# Altium integrated library Cypress Clocks & Buffers Clock Distribution.IntLib: 321 symbols (part 1 of 25)
Pins are listed as number, name and electrical type; pins without a type are passive.

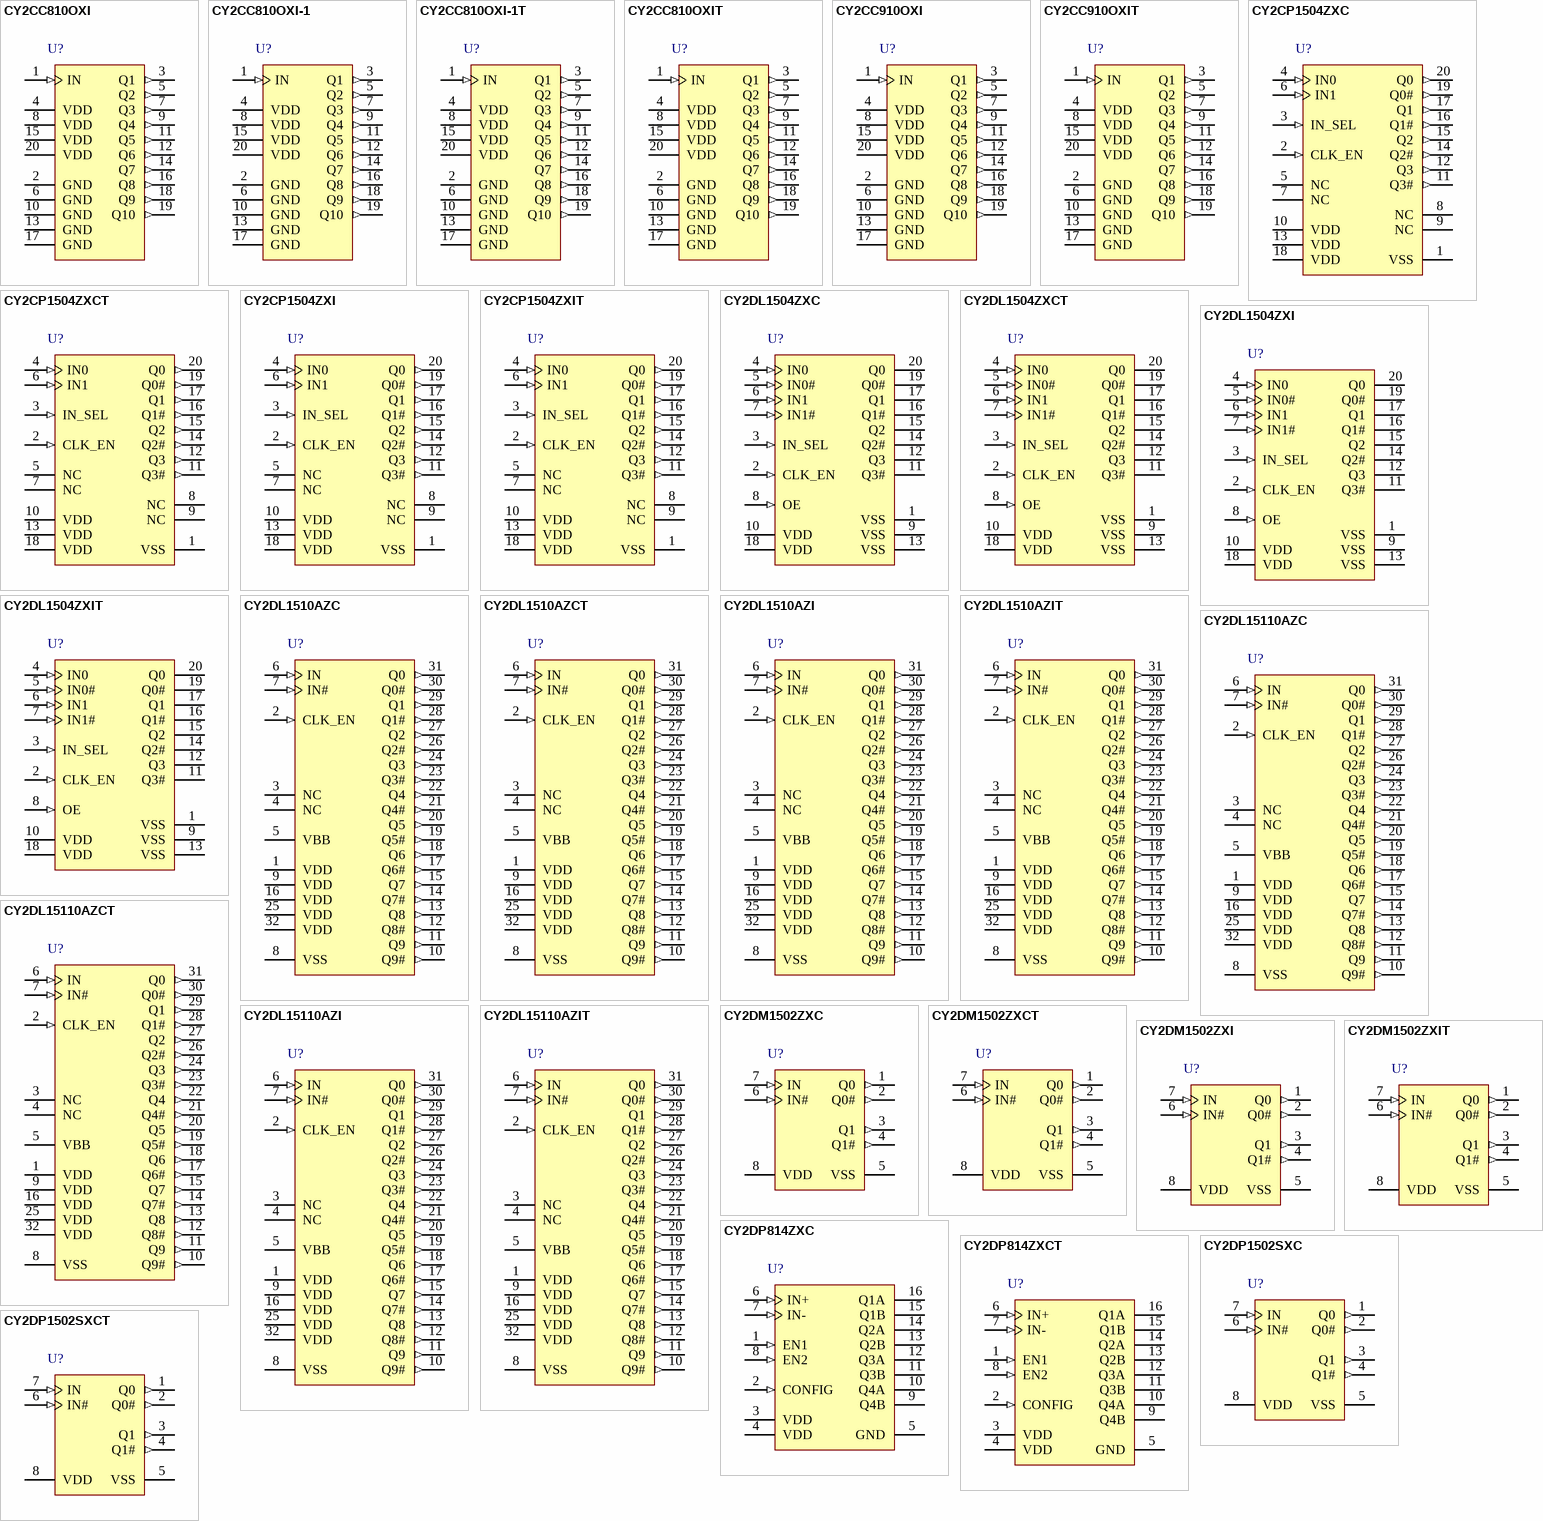
[diagram p0: symbols CY2CC810OXI to CY2DP1502SXCT]

## CY2CC810OXI
designator U?
1:10 Clock Fanout Buffer, 2.5 / 3.3 V, 10 Outputs, 650 MHz Maximum, -40 to 85 degC, 20-Pin SSOP (OX20), Tube; Manufacturer: Cypress; PartNumber: CY2CC810OXI; Input Frequency Max. (MHz): 650; Max. Operating Voltage (V): 3.3; Min. Operating Voltage (V): 2.5; No. of Outputs: 10; DatasheetVersion: Rev. *E; PackageVersion: Rev. *E; PackageReference: OX20; PackageDescription: 20-Pin Shrink Small Outline Package, Body 7.2 x 5.3 mm, Pitch 0.65 mm; Supplier 1: Digi-Key; Supplier Part Number 1: 428-2900-5-ND; Supplier 2: Mouser; Supplier Part Number 2: 727-CY2CC810OXI; Max. Operating Temp. (degreesC): 85; Min. Operating Temp. (degreesC): -40; Output Frequency Max. (MHz): 650; Packing: Tube; RoHS: Pb-Free; Mounting Technology: Surface Mount; ComponentLink1Description: Manufacturer URL; ComponentLink1URL: http://www.cypress.com/; ComponentLink2Description: Datasheet; ComponentLink2URL: http://www.cypress.com/?docID=31678; ComponentLink3Description: Package Specification; ComponentLink3URL: http://www.cypress.com/?docID=31678
footprint CYP-OX20_N (SOP, 20-Leads, Body 7.4x5.6mm, Pitch 0.65mm, IPC Medium Density)
footprint CYP-OX20_L (SOP, 20-Leads, Body 7.4x5.6mm, Pitch 0.65mm, IPC High Density)
footprint CYP-OX20_M (SOP, 20-Leads, Body 7.4x5.6mm, Pitch 0.65mm, IPC Low Density)
pins: 1 IN (in) "LVCMOS Input", 2 GND (power) "Ground", 3 Q1 (out) "AVCMOS Output", 4 VDD (power) "Power Supply", 5 Q2 (out) "AVCMOS Output", 6 GND (power) "Ground", 7 Q3 (out) "AVCMOS Output", 8 VDD (power) "Power Supply", 9 Q4 (out) "AVCMOS Output", 10 GND (power) "Ground", 11 Q5 (out) "AVCMOS Output", 12 Q6 (out) "AVCMOS Output", 13 GND (power) "Ground", 14 Q7 (out) "AVCMOS Output", 15 VDD (power) "Power Supply", 16 Q8 (out) "AVCMOS Output", 17 GND (power) "Ground", 18 Q9 (out) "AVCMOS Output", 19 Q10 (out) "AVCMOS Output", 20 VDD (power) "Power Supply"

## CY2CC810OXI-1
designator U?
1:10 Clock Fanout Buffer, 2.5 / 3.3 V, 10 Outputs, 650 MHz Maximum, -40 to 85 degC, 20-Pin SSOP (OX20), Tube; Manufacturer: Cypress; PartNumber: CY2CC810OXI-1; Input Frequency Max. (MHz): 650; Max. Operating Voltage (V): 3.3; Min. Operating Voltage (V): 2.5; No. of Outputs: 10; DatasheetVersion: Rev. *E; PackageVersion: Rev. *E; PackageReference: OX20; PackageDescription: 20-Pin Shrink Small Outline Package, Body 7.2 x 5.3 mm, Pitch 0.65 mm; Supplier 1: Mouser; Supplier Part Number 1: N/A; Max. Operating Temp. (degreesC): 85; Min. Operating Temp. (degreesC): -40; Output Frequency Max. (MHz): 650; Packing: Tube; RoHS: Pb-Free; Mounting Technology: Surface Mount; ComponentLink1Description: Manufacturer URL; ComponentLink1URL: http://www.cypress.com/; ComponentLink2Description: Datasheet; ComponentLink2URL: http://www.cypress.com/?docID=31678; ComponentLink3Description: Package Specification; ComponentLink3URL: http://www.cypress.com/?docID=31678
footprint CYP-OX20_N (SOP, 20-Leads, Body 7.4x5.6mm, Pitch 0.65mm, IPC Medium Density)
footprint CYP-OX20_L (SOP, 20-Leads, Body 7.4x5.6mm, Pitch 0.65mm, IPC High Density)
footprint CYP-OX20_M (SOP, 20-Leads, Body 7.4x5.6mm, Pitch 0.65mm, IPC Low Density)
pins: 1 IN (in) "LVCMOS Input", 2 GND (power) "Ground", 3 Q1 (out) "AVCMOS Output", 4 VDD (power) "Power Supply", 5 Q2 (out) "AVCMOS Output", 6 GND (power) "Ground", 7 Q3 (out) "AVCMOS Output", 8 VDD (power) "Power Supply", 9 Q4 (out) "AVCMOS Output", 10 GND (power) "Ground", 11 Q5 (out) "AVCMOS Output", 12 Q6 (out) "AVCMOS Output", 13 GND (power) "Ground", 14 Q7 (out) "AVCMOS Output", 15 VDD (power) "Power Supply", 16 Q8 (out) "AVCMOS Output", 17 GND (power) "Ground", 18 Q9 (out) "AVCMOS Output", 19 Q10 (out) "AVCMOS Output", 20 VDD (power) "Power Supply"

## CY2CC810OXI-1T
designator U?
1:10 Clock Fanout Buffer, 2.5 / 3.3 V, 10 Outputs, 650 MHz Maximum, -40 to 85 degC, 20-Pin SSOP (OX20), Tape and Reel; Manufacturer: Cypress; PartNumber: CY2CC810OXI-1T; Input Frequency Max. (MHz): 650; Max. Operating Voltage (V): 3.3; Min. Operating Voltage (V): 2.5; No. of Outputs: 10; DatasheetVersion: Rev. *E; PackageVersion: Rev. *E; PackageReference: OX20; PackageDescription: 20-Pin Shrink Small Outline Package, Body 7.2 x 5.3 mm, Pitch 0.65 mm; Supplier 1: Mouser; Supplier Part Number 1: 727-CY2CC810OXI1T; Max. Operating Temp. (degreesC): 85; Min. Operating Temp. (degreesC): -40; Output Frequency Max. (MHz): 650; Packing: Tape and Reel; RoHS: Pb-Free; Mounting Technology: Surface Mount; ComponentLink1Description: Manufacturer URL; ComponentLink1URL: http://www.cypress.com/; ComponentLink2Description: Datasheet; ComponentLink2URL: http://www.cypress.com/?docID=31678; ComponentLink3Description: Package Specification; ComponentLink3URL: http://www.cypress.com/?docID=31678
footprint CYP-OX20_N (SOP, 20-Leads, Body 7.4x5.6mm, Pitch 0.65mm, IPC Medium Density)
footprint CYP-OX20_L (SOP, 20-Leads, Body 7.4x5.6mm, Pitch 0.65mm, IPC High Density)
footprint CYP-OX20_M (SOP, 20-Leads, Body 7.4x5.6mm, Pitch 0.65mm, IPC Low Density)
pins: 1 IN (in) "LVCMOS Input", 2 GND (power) "Ground", 3 Q1 (out) "AVCMOS Output", 4 VDD (power) "Power Supply", 5 Q2 (out) "AVCMOS Output", 6 GND (power) "Ground", 7 Q3 (out) "AVCMOS Output", 8 VDD (power) "Power Supply", 9 Q4 (out) "AVCMOS Output", 10 GND (power) "Ground", 11 Q5 (out) "AVCMOS Output", 12 Q6 (out) "AVCMOS Output", 13 GND (power) "Ground", 14 Q7 (out) "AVCMOS Output", 15 VDD (power) "Power Supply", 16 Q8 (out) "AVCMOS Output", 17 GND (power) "Ground", 18 Q9 (out) "AVCMOS Output", 19 Q10 (out) "AVCMOS Output", 20 VDD (power) "Power Supply"

## CY2CC810OXIT
designator U?
1:10 Clock Fanout Buffer, 2.5 / 3.3 V, 10 Outputs, 650 MHz Maximum, -40 to 85 degC, 20-Pin SSOP (OX20), Tape and Reel; Manufacturer: Cypress; PartNumber: CY2CC810OXIT; Input Frequency Max. (MHz): 650; Max. Operating Voltage (V): 3.3; Min. Operating Voltage (V): 2.5; No. of Outputs: 10; DatasheetVersion: Rev. *E; PackageVersion: Rev. *E; PackageReference: OX20; PackageDescription: 20-Pin Shrink Small Outline Package, Body 7.2 x 5.3 mm, Pitch 0.65 mm; Supplier 1: Digi-Key; Supplier Part Number 1: CY2CC810OXIT-ND; Supplier 2: Newark; Supplier Part Number 2: 19M5823; Supplier 3: Mouser; Supplier Part Number 3: 727-CY2CC810OXIT; Max. Operating Temp. (degreesC): 85; Min. Operating Temp. (degreesC): -40; Output Frequency Max. (MHz): 650; Packing: Tape and Reel; RoHS: Pb-Free; Mounting Technology: Surface Mount; ComponentLink1Description: Manufacturer URL; ComponentLink1URL: http://www.cypress.com/; ComponentLink2Description: Datasheet; ComponentLink2URL: http://www.cypress.com/?docID=31678; ComponentLink3Description: Package Specification; ComponentLink3URL: http://www.cypress.com/?docID=31678
footprint CYP-OX20_N (SOP, 20-Leads, Body 7.4x5.6mm, Pitch 0.65mm, IPC Medium Density)
footprint CYP-OX20_L (SOP, 20-Leads, Body 7.4x5.6mm, Pitch 0.65mm, IPC High Density)
footprint CYP-OX20_M (SOP, 20-Leads, Body 7.4x5.6mm, Pitch 0.65mm, IPC Low Density)
pins: 1 IN (in) "LVCMOS Input", 2 GND (power) "Ground", 3 Q1 (out) "AVCMOS Output", 4 VDD (power) "Power Supply", 5 Q2 (out) "AVCMOS Output", 6 GND (power) "Ground", 7 Q3 (out) "AVCMOS Output", 8 VDD (power) "Power Supply", 9 Q4 (out) "AVCMOS Output", 10 GND (power) "Ground", 11 Q5 (out) "AVCMOS Output", 12 Q6 (out) "AVCMOS Output", 13 GND (power) "Ground", 14 Q7 (out) "AVCMOS Output", 15 VDD (power) "Power Supply", 16 Q8 (out) "AVCMOS Output", 17 GND (power) "Ground", 18 Q9 (out) "AVCMOS Output", 19 Q10 (out) "AVCMOS Output", 20 VDD (power) "Power Supply"

## CY2CC910OXI
designator U?
1:10 Clock Fanout Buffer, 1.8 / 2.5 / 3.3 V, 10 Outputs, 650 MHz Maximum, -40 to 85 degC, 20-Pin SSOP (OX20), Tube; Manufacturer: Cypress; PartNumber: CY2CC910OXI; Input Frequency Max. (MHz): 650; No. of Outputs: 10; DatasheetVersion: Rev. *F; PackageVersion: Rev. *E; PackageReference: OX20; PackageDescription: 20-Pin Shrink Small Outline Package, Body 7.2 x 5.3 mm, Pitch 0.65 mm; Supplier 1: Digi-Key; Supplier Part Number 1: CY2CC910OXI-ND; Supplier 2: Newark; Supplier Part Number 2: 19M5828; Supplier 3: Newark; Supplier Part Number 3: 51X2305; Supplier 4: Mouser; Supplier Part Number 4: 727-CY2CC910OXI; Max. Operating Temp. (degreesC): 85; Min. Operating Temp. (degreesC): -40; Output Frequency Max. (MHz): 650; Packing: Tube; RoHS: Pb-Free; Mounting Technology: Surface Mount; ComponentLink1Description: Manufacturer URL; ComponentLink1URL: http://www.cypress.com/; ComponentLink2Description: Datasheet; ComponentLink2URL: http://www.cypress.com/?docID=31899; ComponentLink3Description: Package Specification; ComponentLink3URL: http://www.cypress.com/?docID=31678
footprint CYP-OX20_N (SOP, 20-Leads, Body 7.4x5.6mm, Pitch 0.65mm, IPC Medium Density)
footprint CYP-OX20_L (SOP, 20-Leads, Body 7.4x5.6mm, Pitch 0.65mm, IPC High Density)
footprint CYP-OX20_M (SOP, 20-Leads, Body 7.4x5.6mm, Pitch 0.65mm, IPC Low Density)
pins: 1 IN (in) "Input", 2 GND (power) "Ground", 3 Q1 (out) "Output", 4 VDD (power) "Power Supply", 5 Q2 (out) "Output", 6 GND (power) "Ground", 7 Q3 (out) "Output", 8 VDD (power) "Power Supply", 9 Q4 (out) "Output", 10 GND (power) "Ground", 11 Q5 (out) "Output", 12 Q6 (out) "Output", 13 GND (power) "Ground", 14 Q7 (out) "Output", 15 VDD (power) "Power Supply", 16 Q8 (out) "Output", 17 GND (power) "Ground", 18 Q9 (out) "Output", 19 Q10 (out) "Output", 20 VDD (power) "Power Supply"

## CY2CC910OXIT
designator U?
1:10 Clock Fanout Buffer, 1.8 / 2.5 / 3.3 V, 10 Outputs, 650 MHz Maximum, -40 to 85 degC, 20-Pin SSOP (OX20), Tape and Reel; Manufacturer: Cypress; PartNumber: CY2CC910OXIT; Input Frequency Max. (MHz): 650; No. of Outputs: 10; DatasheetVersion: Rev. *F; PackageVersion: Rev. *E; PackageReference: OX20; PackageDescription: 20-Pin Shrink Small Outline Package, Body 7.2 x 5.3 mm, Pitch 0.65 mm; Supplier 1: Digi-Key; Supplier Part Number 1: CY2CC910OXIT-ND; Supplier 2: Mouser; Supplier Part Number 2: 727-CY2CC910OXIT; Max. Operating Temp. (degreesC): 85; Min. Operating Temp. (degreesC): -40; Output Frequency Max. (MHz): 650; Packing: Tape and Reel; RoHS: Pb-Free; Mounting Technology: Surface Mount; ComponentLink1Description: Manufacturer URL; ComponentLink1URL: http://www.cypress.com/; ComponentLink2Description: Datasheet; ComponentLink2URL: http://www.cypress.com/?docID=31899; ComponentLink3Description: Package Specification; ComponentLink3URL: http://www.cypress.com/?docID=31678
footprint CYP-OX20_N (SOP, 20-Leads, Body 7.4x5.6mm, Pitch 0.65mm, IPC Medium Density)
footprint CYP-OX20_L (SOP, 20-Leads, Body 7.4x5.6mm, Pitch 0.65mm, IPC High Density)
footprint CYP-OX20_M (SOP, 20-Leads, Body 7.4x5.6mm, Pitch 0.65mm, IPC Low Density)
pins: 1 IN (in) "Input", 2 GND (power) "Ground", 3 Q1 (out) "Output", 4 VDD (power) "Power Supply", 5 Q2 (out) "Output", 6 GND (power) "Ground", 7 Q3 (out) "Output", 8 VDD (power) "Power Supply", 9 Q4 (out) "Output", 10 GND (power) "Ground", 11 Q5 (out) "Output", 12 Q6 (out) "Output", 13 GND (power) "Ground", 14 Q7 (out) "Output", 15 VDD (power) "Power Supply", 16 Q8 (out) "Output", 17 GND (power) "Ground", 18 Q9 (out) "Output", 19 Q10 (out) "Output", 20 VDD (power) "Power Supply"

## CY2CP1504ZXC
designator U?
1:4 LVCMOS to LVPECL Fanout Buffer with Selectable Clock Input, 2.5 / 3.3 V, 4 Outputs, 250 MHz Maximum, 0 to 70 degC, 20-Pin TSSOP (ZX20), Tube; Manufacturer: Cypress; PartNumber: CY2CP1504ZXC; Input Frequency Max. (MHz): 250; Max. Operating Voltage (V): 3.465; Min. Operating Voltage (V): 2.375; No. of Outputs: 4; DatasheetVersion: Rev. *F; PackageVersion: Rev. *D, 09/2011; PackageReference: ZX20; PackageDescription: 20-Pin Thin Shrink Small Outline Package, Body 6.5 x 4.4 mm, Pitch 0.65 mm; Supplier 1: Digi-Key; Supplier Part Number 1: CY2CP1504ZXC-ND; Supplier 2: Newark; Supplier Part Number 2: 45T1729; Supplier 3: Mouser; Supplier Part Number 3: 727-CY2CP1504ZXC; Max. Operating Temp. (degreesC): 70; Min. Operating Temp. (degreesC): 0; Output Frequency Max. (MHz): 250; Packing: Tube; RoHS: Pb-Free; Mounting Technology: Surface Mount; Code_JEDEC: MO-153; ComponentLink1Description: Manufacturer URL; ComponentLink1URL: http://www.cypress.com/; ComponentLink2Description: Datasheet; ComponentLink2URL: http://www.cypress.com/?docID=27539; ComponentLink3Description: Package Specification; ComponentLink3URL: http://www.cypress.com/?docID=39121
footprint CYP-ZX20_N (SOP, 20-Leads, Body 6.6x4.5mm, Pitch 0.65mm, IPC Medium Density)
footprint CYP-ZX20_L (SOP, 20-Leads, Body 6.6x4.5mm, Pitch 0.65mm, IPC High Density)
footprint CYP-ZX20_M (SOP, 20-Leads, Body 6.6x4.5mm, Pitch 0.65mm, IPC Low Density)
pins: 1 VSS (power) "Ground", 2 CLK_EN (in) "Synchronous clock enable. LVCMOS/low-voltage transistor-transistor logic (LVTTL). When CLK_EN = Low, Q(0:3) outputs are held low and Q(0:3)# outputs are held high", 3 IN_SEL (in) "Input clock select pin. LVCMOS/LVTTL; When IN_SEL = Low, input IN0 is active When IN_SEL = High, input IN1 is active", 4 IN0 (in) "LVCMOS input clock. Active when IN_SEL = Low", 5 NC "No connection", 6 IN1 (in) "LVCMOS input clock. Active when IN_SEL = High", 7 NC "No connection", 8 NC "No connection", 9 NC "No connection", 10 VDD (power) "Power supply", 11 Q3# (out) "LVPECL complementary output clocks", 12 Q3 (out) "LVPECL output clocks", 13 VDD (power) "Power supply", 14 Q2# (out) "LVPECL complementary output clocks", 15 Q2 (out) "LVPECL output clocks", 16 Q1# (out) "LVPECL complementary output clocks", 17 Q1 (out) "LVPECL output clocks", 18 VDD (power) "Power supply", 19 Q0# (out) "LVPECL complementary output clocks", 20 Q0 (out) "LVPECL output clocks"

## CY2CP1504ZXCT
designator U?
1:4 LVCMOS to LVPECL Fanout Buffer with Selectable Clock Input, 2.5 / 3.3 V, 4 Outputs, 250 MHz Maximum, 0 to 70 degC, 20-Pin TSSOP (ZX20), Tape and Reel; Manufacturer: Cypress; PartNumber: CY2CP1504ZXCT; Input Frequency Max. (MHz): 250; Max. Operating Voltage (V): 3.465; Min. Operating Voltage (V): 2.375; No. of Outputs: 4; DatasheetVersion: Rev. *F; PackageVersion: Rev. *D, 09/2011; PackageReference: ZX20; PackageDescription: 20-Pin Thin Shrink Small Outline Package, Body 6.5 x 4.4 mm, Pitch 0.65 mm; Supplier 1: Digi-Key; Supplier Part Number 1: CY2CP1504ZXCT-ND; Supplier 2: Mouser; Supplier Part Number 2: 727-CY2CP1504ZXCT; Max. Operating Temp. (degreesC): 70; Min. Operating Temp. (degreesC): 0; Output Frequency Max. (MHz): 250; Packing: Tape and Reel; RoHS: Pb-Free; Mounting Technology: Surface Mount; Code_JEDEC: MO-153; ComponentLink1Description: Manufacturer URL; ComponentLink1URL: http://www.cypress.com/; ComponentLink2Description: Datasheet; ComponentLink2URL: http://www.cypress.com/?docID=27539; ComponentLink3Description: Package Specification; ComponentLink3URL: http://www.cypress.com/?docID=39121
footprint CYP-ZX20_N (SOP, 20-Leads, Body 6.6x4.5mm, Pitch 0.65mm, IPC Medium Density)
footprint CYP-ZX20_L (SOP, 20-Leads, Body 6.6x4.5mm, Pitch 0.65mm, IPC High Density)
footprint CYP-ZX20_M (SOP, 20-Leads, Body 6.6x4.5mm, Pitch 0.65mm, IPC Low Density)
pins: 1 VSS (power) "Ground", 2 CLK_EN (in) "Synchronous clock enable. LVCMOS/low-voltage transistor-transistor logic (LVTTL). When CLK_EN = Low, Q(0:3) outputs are held low and Q(0:3)# outputs are held high", 3 IN_SEL (in) "Input clock select pin. LVCMOS/LVTTL; When IN_SEL = Low, input IN0 is active When IN_SEL = High, input IN1 is active", 4 IN0 (in) "LVCMOS input clock. Active when IN_SEL = Low", 5 NC "No connection", 6 IN1 (in) "LVCMOS input clock. Active when IN_SEL = High", 7 NC "No connection", 8 NC "No connection", 9 NC "No connection", 10 VDD (power) "Power supply", 11 Q3# (out) "LVPECL complementary output clocks", 12 Q3 (out) "LVPECL output clocks", 13 VDD (power) "Power supply", 14 Q2# (out) "LVPECL complementary output clocks", 15 Q2 (out) "LVPECL output clocks", 16 Q1# (out) "LVPECL complementary output clocks", 17 Q1 (out) "LVPECL output clocks", 18 VDD (power) "Power supply", 19 Q0# (out) "LVPECL complementary output clocks", 20 Q0 (out) "LVPECL output clocks"

## CY2CP1504ZXI
designator U?
1:4 LVCMOS to LVPECL Fanout Buffer with Selectable Clock Input, 2.5 / 3.3 V, 4 Outputs, 250 MHz Maximum, -40 to 85 degC, 20-Pin TSSOP (ZX20), Tube; Manufacturer: Cypress; PartNumber: CY2CP1504ZXI; Input Frequency Max. (MHz): 250; Max. Operating Voltage (V): 3.465; Min. Operating Voltage (V): 2.375; No. of Outputs: 4; DatasheetVersion: Rev. *F; PackageVersion: Rev. *D, 09/2011; PackageReference: ZX20; PackageDescription: 20-Pin Thin Shrink Small Outline Package, Body 6.5 x 4.4 mm, Pitch 0.65 mm; Supplier 1: Digi-Key; Supplier Part Number 1: CY2CP1504ZXI-ND; Supplier 2: Mouser; Supplier Part Number 2: 727-CY2CP1504ZXI; Max. Operating Temp. (degreesC): 85; Min. Operating Temp. (degreesC): -40; Output Frequency Max. (MHz): 250; Packing: Tube; RoHS: Pb-Free; Mounting Technology: Surface Mount; Code_JEDEC: MO-153; ComponentLink1Description: Manufacturer URL; ComponentLink1URL: http://www.cypress.com/; ComponentLink2Description: Datasheet; ComponentLink2URL: http://www.cypress.com/?docID=27539; ComponentLink3Description: Package Specification; ComponentLink3URL: http://www.cypress.com/?docID=39121
footprint CYP-ZX20_N (SOP, 20-Leads, Body 6.6x4.5mm, Pitch 0.65mm, IPC Medium Density)
footprint CYP-ZX20_L (SOP, 20-Leads, Body 6.6x4.5mm, Pitch 0.65mm, IPC High Density)
footprint CYP-ZX20_M (SOP, 20-Leads, Body 6.6x4.5mm, Pitch 0.65mm, IPC Low Density)
pins: 1 VSS (power) "Ground", 2 CLK_EN (in) "Synchronous clock enable. LVCMOS/low-voltage transistor-transistor logic (LVTTL). When CLK_EN = Low, Q(0:3) outputs are held low and Q(0:3)# outputs are held high", 3 IN_SEL (in) "Input clock select pin. LVCMOS/LVTTL; When IN_SEL = Low, input IN0 is active When IN_SEL = High, input IN1 is active", 4 IN0 (in) "LVCMOS input clock. Active when IN_SEL = Low", 5 NC "No connection", 6 IN1 (in) "LVCMOS input clock. Active when IN_SEL = High", 7 NC "No connection", 8 NC "No connection", 9 NC "No connection", 10 VDD (power) "Power supply", 11 Q3# (out) "LVPECL complementary output clocks", 12 Q3 (out) "LVPECL output clocks", 13 VDD (power) "Power supply", 14 Q2# (out) "LVPECL complementary output clocks", 15 Q2 (out) "LVPECL output clocks", 16 Q1# (out) "LVPECL complementary output clocks", 17 Q1 (out) "LVPECL output clocks", 18 VDD (power) "Power supply", 19 Q0# (out) "LVPECL complementary output clocks", 20 Q0 (out) "LVPECL output clocks"

## CY2CP1504ZXIT
designator U?
1:4 LVCMOS to LVPECL Fanout Buffer with Selectable Clock Input, 2.5 / 3.3 V, 4 Outputs, 250 MHz Maximum, -40 to 85 degC, 20-Pin TSSOP (ZX20), Tape and Reel; Manufacturer: Cypress; PartNumber: CY2CP1504ZXIT; Input Frequency Max. (MHz): 250; Max. Operating Voltage (V): 3.465; Min. Operating Voltage (V): 2.375; No. of Outputs: 4; DatasheetVersion: Rev. *F; PackageVersion: Rev. *D, 09/2011; PackageReference: ZX20; PackageDescription: 20-Pin Thin Shrink Small Outline Package, Body 6.5 x 4.4 mm, Pitch 0.65 mm; Supplier 1: Digi-Key; Supplier Part Number 1: CY2CP1504ZXIT-ND; Supplier 2: Mouser; Supplier Part Number 2: 727-CY2CP1504ZXIT; Max. Operating Temp. (degreesC): 85; Min. Operating Temp. (degreesC): -40; Output Frequency Max. (MHz): 250; Packing: Tape and Reel; RoHS: Pb-Free; Mounting Technology: Surface Mount; Code_JEDEC: MO-153; ComponentLink1Description: Manufacturer URL; ComponentLink1URL: http://www.cypress.com/; ComponentLink2Description: Datasheet; ComponentLink2URL: http://www.cypress.com/?docID=27539; ComponentLink3Description: Package Specification; ComponentLink3URL: http://www.cypress.com/?docID=39121
footprint CYP-ZX20_N (SOP, 20-Leads, Body 6.6x4.5mm, Pitch 0.65mm, IPC Medium Density)
footprint CYP-ZX20_L (SOP, 20-Leads, Body 6.6x4.5mm, Pitch 0.65mm, IPC High Density)
footprint CYP-ZX20_M (SOP, 20-Leads, Body 6.6x4.5mm, Pitch 0.65mm, IPC Low Density)
pins: 1 VSS (power) "Ground", 2 CLK_EN (in) "Synchronous clock enable. LVCMOS/low-voltage transistor-transistor logic (LVTTL). When CLK_EN = Low, Q(0:3) outputs are held low and Q(0:3)# outputs are held high", 3 IN_SEL (in) "Input clock select pin. LVCMOS/LVTTL; When IN_SEL = Low, input IN0 is active When IN_SEL = High, input IN1 is active", 4 IN0 (in) "LVCMOS input clock. Active when IN_SEL = Low", 5 NC "No connection", 6 IN1 (in) "LVCMOS input clock. Active when IN_SEL = High", 7 NC "No connection", 8 NC "No connection", 9 NC "No connection", 10 VDD (power) "Power supply", 11 Q3# (out) "LVPECL complementary output clocks", 12 Q3 (out) "LVPECL output clocks", 13 VDD (power) "Power supply", 14 Q2# (out) "LVPECL complementary output clocks", 15 Q2 (out) "LVPECL output clocks", 16 Q1# (out) "LVPECL complementary output clocks", 17 Q1 (out) "LVPECL output clocks", 18 VDD (power) "Power supply", 19 Q0# (out) "LVPECL complementary output clocks", 20 Q0 (out) "LVPECL output clocks"

## CY2DL1504ZXC
designator U?
1:4 Differential LVDS Fanout Buffer with Selectable Clock Input, 2.5 / 3.3 V, 4 Outputs, 1500 MHz Maximum, 0 to 70 degC, 20-Pin TSSOP (ZX20), Tube; Manufacturer: Cypress; PartNumber: CY2DL1504ZXC; Input Frequency Max. (MHz): 1500; Max. Operating Voltage (V): 3.465; Min. Operating Voltage (V): 2.375; No. of Outputs: 4; DatasheetVersion: Rev. *I; PackageVersion: Rev. *D, 09/2011; PackageReference: ZX20; PackageDescription: 20-Pin Thin Shrink Small Outline Package, Body 6.5 x 4.4 mm, Pitch 0.65 mm; Supplier 1: Digi-Key; Supplier Part Number 1: CY2DL1504ZXC-ND; Supplier 2: Mouser; Supplier Part Number 2: 727-CY2DL1504ZXC; Max. Operating Temp. (degreesC): 70; Min. Operating Temp. (degreesC): 0; Output Frequency Max. (MHz): 1500; Packing: Tube; RoHS: Pb-Free; Mounting Technology: Surface Mount; Code_JEDEC: MO-153; ComponentLink1Description: Manufacturer URL; ComponentLink1URL: http://www.cypress.com/; ComponentLink2Description: Datasheet; ComponentLink2URL: http://www.cypress.com/?docID=42356; ComponentLink3Description: Package Specification; ComponentLink3URL: http://www.cypress.com/?docID=39121
footprint CYP-ZX20_N (SOP, 20-Leads, Body 6.6x4.5mm, Pitch 0.65mm, IPC Medium Density)
footprint CYP-ZX20_L (SOP, 20-Leads, Body 6.6x4.5mm, Pitch 0.65mm, IPC High Density)
footprint CYP-ZX20_M (SOP, 20-Leads, Body 6.6x4.5mm, Pitch 0.65mm, IPC Low Density)
pins: 1 VSS (power) "Ground", 2 CLK_EN (in) "Synchronous clock enable. LVCMOS/LVTTL; When CLK_EN = Low, Q(0:3) outputs are held low and Q(0:3)# outputs are held high", 3 IN_SEL (in) "Input clock select pin. LVCMOS/LVTTL; When IN_SEL = Low, the IN0/IN0# differential input pair is active When IN_SEL = High, the IN1/IN1# differential input pair is active", 4 IN0 (in) "Differential (LVPECL, HCSL, LVDS, or CML) input clock. Active when IN_SEL = Low", 5 IN0# (in) "Differential (LVPECL, HCSL, LVDS, or CML) complementary input clock. Active when IN_SEL = Low", 6 IN1 (in) "Differential (LVPECL, HCSL, LVDS, or CML) input clock. Active when IN_SEL = High", 7 IN1# (in) "Differential (LVPECL, HCSL, LVDS, or CML) complementary input clock. Active when IN_SEL = High", 8 OE (in) "Output enable. LVCMOS/LVTTL; When OE = Low, Q(0:3) and Q(0:3)# outputs are disabled (see IOZ)", 9 VSS (power) "Ground", 10 VDD (power) "Power supply", 11 Q3# (hiz) "LVDS complementary output clocks", 12 Q3 (hiz) "LVDS output clocks", 13 VSS (power) "Ground", 14 Q2# (hiz) "LVDS complementary output clocks", 15 Q2 (hiz) "LVDS output clocks", 16 Q1# (hiz) "LVDS complementary output clocks", 17 Q1 (hiz) "LVDS output clocks", 18 VDD (power) "Power supply", 19 Q0# (hiz) "LVDS complementary output clocks", 20 Q0 (hiz) "LVDS output clocks"

## CY2DL1504ZXCT
designator U?
1:4 Differential LVDS Fanout Buffer with Selectable Clock Input, 2.5 / 3.3 V, 4 Outputs, 1500 MHz Maximum, 0 to 70 degC, 20-Pin TSSOP (ZX20), Tape and Reel; Manufacturer: Cypress; PartNumber: CY2DL1504ZXCT; Input Frequency Max. (MHz): 1500; Max. Operating Voltage (V): 3.465; Min. Operating Voltage (V): 2.375; No. of Outputs: 4; DatasheetVersion: Rev. *I; PackageVersion: Rev. *D, 09/2011; PackageReference: ZX20; PackageDescription: 20-Pin Thin Shrink Small Outline Package, Body 6.5 x 4.4 mm, Pitch 0.65 mm; Supplier 1: Digi-Key; Supplier Part Number 1: CY2DL1504ZXCT-ND; Supplier 2: Mouser; Supplier Part Number 2: 727-CY2DL1504ZXCT; Max. Operating Temp. (degreesC): 70; Min. Operating Temp. (degreesC): 0; Output Frequency Max. (MHz): 1500; Packing: Tape and Reel; RoHS: Pb-Free; Mounting Technology: Surface Mount; Code_JEDEC: MO-153; ComponentLink1Description: Manufacturer URL; ComponentLink1URL: http://www.cypress.com/; ComponentLink2Description: Datasheet; ComponentLink2URL: http://www.cypress.com/?docID=42356; ComponentLink3Description: Package Specification; ComponentLink3URL: http://www.cypress.com/?docID=39121
footprint CYP-ZX20_N (SOP, 20-Leads, Body 6.6x4.5mm, Pitch 0.65mm, IPC Medium Density)
footprint CYP-ZX20_L (SOP, 20-Leads, Body 6.6x4.5mm, Pitch 0.65mm, IPC High Density)
footprint CYP-ZX20_M (SOP, 20-Leads, Body 6.6x4.5mm, Pitch 0.65mm, IPC Low Density)
pins: 1 VSS (power) "Ground", 2 CLK_EN (in) "Synchronous clock enable. LVCMOS/LVTTL; When CLK_EN = Low, Q(0:3) outputs are held low and Q(0:3)# outputs are held high", 3 IN_SEL (in) "Input clock select pin. LVCMOS/LVTTL; When IN_SEL = Low, the IN0/IN0# differential input pair is active When IN_SEL = High, the IN1/IN1# differential input pair is active", 4 IN0 (in) "Differential (LVPECL, HCSL, LVDS, or CML) input clock. Active when IN_SEL = Low", 5 IN0# (in) "Differential (LVPECL, HCSL, LVDS, or CML) complementary input clock. Active when IN_SEL = Low", 6 IN1 (in) "Differential (LVPECL, HCSL, LVDS, or CML) input clock. Active when IN_SEL = High", 7 IN1# (in) "Differential (LVPECL, HCSL, LVDS, or CML) complementary input clock. Active when IN_SEL = High", 8 OE (in) "Output enable. LVCMOS/LVTTL; When OE = Low, Q(0:3) and Q(0:3)# outputs are disabled (see IOZ)", 9 VSS (power) "Ground", 10 VDD (power) "Power supply", 11 Q3# (hiz) "LVDS complementary output clocks", 12 Q3 (hiz) "LVDS output clocks", 13 VSS (power) "Ground", 14 Q2# (hiz) "LVDS complementary output clocks", 15 Q2 (hiz) "LVDS output clocks", 16 Q1# (hiz) "LVDS complementary output clocks", 17 Q1 (hiz) "LVDS output clocks", 18 VDD (power) "Power supply", 19 Q0# (hiz) "LVDS complementary output clocks", 20 Q0 (hiz) "LVDS output clocks"

## CY2DL1504ZXI
designator U?
1:4 Differential LVDS Fanout Buffer with Selectable Clock Input, 2.5 / 3.3 V, 4 Outputs, 1500 MHz Maximum, -40 to 85 degC, 20-Pin TSSOP (ZX20), Tube; Manufacturer: Cypress; PartNumber: CY2DL1504ZXI; Input Frequency Max. (MHz): 1500; Max. Operating Voltage (V): 3.465; Min. Operating Voltage (V): 2.375; No. of Outputs: 4; DatasheetVersion: Rev. *I; PackageVersion: Rev. *D, 09/2011; PackageReference: ZX20; PackageDescription: 20-Pin Thin Shrink Small Outline Package, Body 6.5 x 4.4 mm, Pitch 0.65 mm; Supplier 1: Digi-Key; Supplier Part Number 1: CY2DL1504ZXI-ND; Supplier 2: Mouser; Supplier Part Number 2: 727-CY2DL1504ZXI; Max. Operating Temp. (degreesC): 85; Min. Operating Temp. (degreesC): -40; Output Frequency Max. (MHz): 1500; Packing: Tube; RoHS: Pb-Free; Mounting Technology: Surface Mount; Code_JEDEC: MO-153; ComponentLink1Description: Manufacturer URL; ComponentLink1URL: http://www.cypress.com/; ComponentLink2Description: Datasheet; ComponentLink2URL: http://www.cypress.com/?docID=42356; ComponentLink3Description: Package Specification; ComponentLink3URL: http://www.cypress.com/?docID=39121
footprint CYP-ZX20_N (SOP, 20-Leads, Body 6.6x4.5mm, Pitch 0.65mm, IPC Medium Density)
footprint CYP-ZX20_L (SOP, 20-Leads, Body 6.6x4.5mm, Pitch 0.65mm, IPC High Density)
footprint CYP-ZX20_M (SOP, 20-Leads, Body 6.6x4.5mm, Pitch 0.65mm, IPC Low Density)
pins: 1 VSS (power) "Ground", 2 CLK_EN (in) "Synchronous clock enable. LVCMOS/LVTTL; When CLK_EN = Low, Q(0:3) outputs are held low and Q(0:3)# outputs are held high", 3 IN_SEL (in) "Input clock select pin. LVCMOS/LVTTL; When IN_SEL = Low, the IN0/IN0# differential input pair is active When IN_SEL = High, the IN1/IN1# differential input pair is active", 4 IN0 (in) "Differential (LVPECL, HCSL, LVDS, or CML) input clock. Active when IN_SEL = Low", 5 IN0# (in) "Differential (LVPECL, HCSL, LVDS, or CML) complementary input clock. Active when IN_SEL = Low", 6 IN1 (in) "Differential (LVPECL, HCSL, LVDS, or CML) input clock. Active when IN_SEL = High", 7 IN1# (in) "Differential (LVPECL, HCSL, LVDS, or CML) complementary input clock. Active when IN_SEL = High", 8 OE (in) "Output enable. LVCMOS/LVTTL; When OE = Low, Q(0:3) and Q(0:3)# outputs are disabled (see IOZ)", 9 VSS (power) "Ground", 10 VDD (power) "Power supply", 11 Q3# (hiz) "LVDS complementary output clocks", 12 Q3 (hiz) "LVDS output clocks", 13 VSS (power) "Ground", 14 Q2# (hiz) "LVDS complementary output clocks", 15 Q2 (hiz) "LVDS output clocks", 16 Q1# (hiz) "LVDS complementary output clocks", 17 Q1 (hiz) "LVDS output clocks", 18 VDD (power) "Power supply", 19 Q0# (hiz) "LVDS complementary output clocks", 20 Q0 (hiz) "LVDS output clocks"

## CY2DL1504ZXIT
designator U?
1:4 Differential LVDS Fanout Buffer with Selectable Clock Input, 2.5 / 3.3 V, 4 Outputs, 1500 MHz Maximum, -40 to 85 degC, 20-Pin TSSOP (ZX20), Tape and Reel; Manufacturer: Cypress; PartNumber: CY2DL1504ZXIT; Input Frequency Max. (MHz): 1500; Max. Operating Voltage (V): 3.465; Min. Operating Voltage (V): 2.375; No. of Outputs: 4; DatasheetVersion: Rev. *I; PackageVersion: Rev. *D, 09/2011; PackageReference: ZX20; PackageDescription: 20-Pin Thin Shrink Small Outline Package, Body 6.5 x 4.4 mm, Pitch 0.65 mm; Supplier 1: Digi-Key; Supplier Part Number 1: CY2DL1504ZXIT-ND; Supplier 2: Mouser; Supplier Part Number 2: 727-CY2DL1504ZXIT; Max. Operating Temp. (degreesC): 85; Min. Operating Temp. (degreesC): -40; Output Frequency Max. (MHz): 1500; Packing: Tape and Reel; RoHS: Pb-Free; Mounting Technology: Surface Mount; Code_JEDEC: MO-153; ComponentLink1Description: Manufacturer URL; ComponentLink1URL: http://www.cypress.com/; ComponentLink2Description: Datasheet; ComponentLink2URL: http://www.cypress.com/?docID=42356; ComponentLink3Description: Package Specification; ComponentLink3URL: http://www.cypress.com/?docID=39121
footprint CYP-ZX20_N (SOP, 20-Leads, Body 6.6x4.5mm, Pitch 0.65mm, IPC Medium Density)
footprint CYP-ZX20_L (SOP, 20-Leads, Body 6.6x4.5mm, Pitch 0.65mm, IPC High Density)
footprint CYP-ZX20_M (SOP, 20-Leads, Body 6.6x4.5mm, Pitch 0.65mm, IPC Low Density)
pins: 1 VSS (power) "Ground", 2 CLK_EN (in) "Synchronous clock enable. LVCMOS/LVTTL; When CLK_EN = Low, Q(0:3) outputs are held low and Q(0:3)# outputs are held high", 3 IN_SEL (in) "Input clock select pin. LVCMOS/LVTTL; When IN_SEL = Low, the IN0/IN0# differential input pair is active When IN_SEL = High, the IN1/IN1# differential input pair is active", 4 IN0 (in) "Differential (LVPECL, HCSL, LVDS, or CML) input clock. Active when IN_SEL = Low", 5 IN0# (in) "Differential (LVPECL, HCSL, LVDS, or CML) complementary input clock. Active when IN_SEL = Low", 6 IN1 (in) "Differential (LVPECL, HCSL, LVDS, or CML) input clock. Active when IN_SEL = High", 7 IN1# (in) "Differential (LVPECL, HCSL, LVDS, or CML) complementary input clock. Active when IN_SEL = High", 8 OE (in) "Output enable. LVCMOS/LVTTL; When OE = Low, Q(0:3) and Q(0:3)# outputs are disabled (see IOZ)", 9 VSS (power) "Ground", 10 VDD (power) "Power supply", 11 Q3# (hiz) "LVDS complementary output clocks", 12 Q3 (hiz) "LVDS output clocks", 13 VSS (power) "Ground", 14 Q2# (hiz) "LVDS complementary output clocks", 15 Q2 (hiz) "LVDS output clocks", 16 Q1# (hiz) "LVDS complementary output clocks", 17 Q1 (hiz) "LVDS output clocks", 18 VDD (power) "Power supply", 19 Q0# (hiz) "LVDS complementary output clocks", 20 Q0 (hiz) "LVDS output clocks"

## CY2DL1510AZC
designator U?
1:10 Differential LVDS Fanout Buffer, 2.5 / 3.3 V, 10 Outputs, 1500 MHz Maximum, 0 to 70 degC, 32-Pin TQFP (AX32), Tray; Manufacturer: Cypress; PartNumber: CY2DL1510AZC; Input Frequency Max. (MHz): 1500; Max. Operating Voltage (V): 3.465; Min. Operating Voltage (V): 2.375; No. of Outputs: 10; DatasheetVersion: Rev. *H; PackageVersion: Rev. *D, 07/2011; PackageReference: AX32; PackageDescription: 32-Pin Thin Plastic Quad Flatpack, Body 7 x 7 mm, Pitch 0.8 mm; Supplier 1: Digi-Key; Supplier Part Number 1: CY2DL1510AZC-ND; Supplier 2: Newark; Supplier Part Number 2: 45T1737; Supplier 3: Mouser; Supplier Part Number 3: 727-CY2DL1510AZC; Max. Operating Temp. (degreesC): 70; Min. Operating Temp. (degreesC): 0; Output Frequency Max. (MHz): 1500; Packing: Tray; RoHS: Pb-Free; Mounting Technology: Surface Mount; ComponentLink1Description: Manufacturer URL; ComponentLink1URL: http://www.cypress.com/; ComponentLink2Description: Datasheet; ComponentLink2URL: http://www.cypress.com/?docID=27540; ComponentLink3Description: Package Specification; ComponentLink3URL: http://www.cypress.com/?docID=39155
footprint CYP-AX32-51-85063_N (QFP, 32-Leads, Body 7x7mm, Pitch 0.8mm, IPC Medium Density)
footprint CYP-AX32-51-85063_L (QFP, 32-Leads, Body 7x7mm, Pitch 0.8mm, IPC High Density)
footprint CYP-AX32-51-85063_M (QFP, 32-Leads, Body 7x7mm, Pitch 0.8mm, IPC Low Density)
pins: 1 VDD (power) "Power supply", 2 CLK_EN (in) "Synchronous clock enable. Low-voltage complementary metal oxide semiconductor (LVCMOS)/low-voltage transistor-transistor-logic (LVTTL). When CLK_EN = Low, Q(0:9) outputs are held low and Q(0:9)# outputs are held high", 3 NC "No connection", 4 NC "No connection", 5 VBB (power) "LVDS reference voltage output", 6 IN (in) "LVDS input clock", 7 IN# (in) "LVDS complementary input clock", 8 VSS (power) "Ground", 9 VDD (power) "Power supply", 10 Q9# (out) "LVDS complementary output clocks", 11 Q9 (out) "LVDS output clocks", 12 Q8# (out) "LVDS complementary output clocks", 13 Q8 (out) "LVDS output clocks", 14 Q7# (out) "LVDS complementary output clocks", 15 Q7 (out) "LVDS output clocks", 16 VDD (power) "Power supply", 17 Q6# (out) "LVDS complementary output clocks", 18 Q6 (out) "LVDS output clocks", 19 Q5# (out) "LVDS complementary output clocks", 20 Q5 (out) "LVDS output clocks", 21 Q4# (out) "LVDS complementary output clocks", 22 Q4 (out) "LVDS output clocks", 23 Q3# (out) "LVDS complementary output clocks", 24 Q3 (out) "LVDS output clocks", 25 VDD (power) "Power supply", 26 Q2# (out) "LVDS complementary output clocks", 27 Q2 (out) "LVDS output clocks", 28 Q1# (out) "LVDS complementary output clocks", 29 Q1 (out) "LVDS output clocks", 30 Q0# (out) "LVDS complementary output clocks", 31 Q0 (out) "LVDS output clocks", 32 VDD (power) "Power supply"

## CY2DL1510AZCT
designator U?
1:10 Differential LVDS Fanout Buffer, 2.5 / 3.3 V, 10 Outputs, 1500 MHz Maximum, 0 to 70 degC, 32-Pin TQFP (AX32), Tape and Reel; Manufacturer: Cypress; PartNumber: CY2DL1510AZCT; Input Frequency Max. (MHz): 1500; Max. Operating Voltage (V): 3.465; Min. Operating Voltage (V): 2.375; No. of Outputs: 10; DatasheetVersion: Rev. *H; PackageVersion: Rev. *D, 07/2011; PackageReference: AX32; PackageDescription: 32-Pin Thin Plastic Quad Flatpack, Body 7 x 7 mm, Pitch 0.8 mm; Supplier 1: Digi-Key; Supplier Part Number 1: CY2DL1510AZCT-ND; Supplier 2: Mouser; Supplier Part Number 2: 727-CY2DL1510AZCT; Max. Operating Temp. (degreesC): 70; Min. Operating Temp. (degreesC): 0; Output Frequency Max. (MHz): 1500; Packing: Tape and Reel; RoHS: Pb-Free; Mounting Technology: Surface Mount; ComponentLink1Description: Manufacturer URL; ComponentLink1URL: http://www.cypress.com/; ComponentLink2Description: Datasheet; ComponentLink2URL: http://www.cypress.com/?docID=27540; ComponentLink3Description: Package Specification; ComponentLink3URL: http://www.cypress.com/?docID=39155
footprint CYP-AX32-51-85063_N (QFP, 32-Leads, Body 7x7mm, Pitch 0.8mm, IPC Medium Density)
footprint CYP-AX32-51-85063_L (QFP, 32-Leads, Body 7x7mm, Pitch 0.8mm, IPC High Density)
footprint CYP-AX32-51-85063_M (QFP, 32-Leads, Body 7x7mm, Pitch 0.8mm, IPC Low Density)
pins: 1 VDD (power) "Power supply", 2 CLK_EN (in) "Synchronous clock enable. Low-voltage complementary metal oxide semiconductor (LVCMOS)/low-voltage transistor-transistor-logic (LVTTL). When CLK_EN = Low, Q(0:9) outputs are held low and Q(0:9)# outputs are held high", 3 NC "No connection", 4 NC "No connection", 5 VBB (power) "LVDS reference voltage output", 6 IN (in) "LVDS input clock", 7 IN# (in) "LVDS complementary input clock", 8 VSS (power) "Ground", 9 VDD (power) "Power supply", 10 Q9# (out) "LVDS complementary output clocks", 11 Q9 (out) "LVDS output clocks", 12 Q8# (out) "LVDS complementary output clocks", 13 Q8 (out) "LVDS output clocks", 14 Q7# (out) "LVDS complementary output clocks", 15 Q7 (out) "LVDS output clocks", 16 VDD (power) "Power supply", 17 Q6# (out) "LVDS complementary output clocks", 18 Q6 (out) "LVDS output clocks", 19 Q5# (out) "LVDS complementary output clocks", 20 Q5 (out) "LVDS output clocks", 21 Q4# (out) "LVDS complementary output clocks", 22 Q4 (out) "LVDS output clocks", 23 Q3# (out) "LVDS complementary output clocks", 24 Q3 (out) "LVDS output clocks", 25 VDD (power) "Power supply", 26 Q2# (out) "LVDS complementary output clocks", 27 Q2 (out) "LVDS output clocks", 28 Q1# (out) "LVDS complementary output clocks", 29 Q1 (out) "LVDS output clocks", 30 Q0# (out) "LVDS complementary output clocks", 31 Q0 (out) "LVDS output clocks", 32 VDD (power) "Power supply"

## CY2DL1510AZI
designator U?
1:10 Differential LVDS Fanout Buffer, 2.5 / 3.3 V, 10 Outputs, 1500 MHz Maximum, -40 to 85 degC, 32-Pin TQFP (AX32), Tray; Manufacturer: Cypress; PartNumber: CY2DL1510AZI; Input Frequency Max. (MHz): 1500; Max. Operating Voltage (V): 3.465; Min. Operating Voltage (V): 2.375; No. of Outputs: 10; DatasheetVersion: Rev. *H; PackageVersion: Rev. *D, 07/2011; PackageReference: AX32; PackageDescription: 32-Pin Thin Plastic Quad Flatpack, Body 7 x 7 mm, Pitch 0.8 mm; Supplier 1: Digi-Key; Supplier Part Number 1: CY2DL1510AZI-ND; Supplier 2: Mouser; Supplier Part Number 2: 727-CY2DL1510AZI; Max. Operating Temp. (degreesC): 85; Min. Operating Temp. (degreesC): -40; Output Frequency Max. (MHz): 1500; Packing: Tray; RoHS: Pb-Free; Mounting Technology: Surface Mount; ComponentLink1Description: Manufacturer URL; ComponentLink1URL: http://www.cypress.com/; ComponentLink2Description: Datasheet; ComponentLink2URL: http://www.cypress.com/?docID=27540; ComponentLink3Description: Package Specification; ComponentLink3URL: http://www.cypress.com/?docID=39155
footprint CYP-AX32-51-85063_N (QFP, 32-Leads, Body 7x7mm, Pitch 0.8mm, IPC Medium Density)
footprint CYP-AX32-51-85063_L (QFP, 32-Leads, Body 7x7mm, Pitch 0.8mm, IPC High Density)
footprint CYP-AX32-51-85063_M (QFP, 32-Leads, Body 7x7mm, Pitch 0.8mm, IPC Low Density)
pins: 1 VDD (power) "Power supply", 2 CLK_EN (in) "Synchronous clock enable. Low-voltage complementary metal oxide semiconductor (LVCMOS)/low-voltage transistor-transistor-logic (LVTTL). When CLK_EN = Low, Q(0:9) outputs are held low and Q(0:9)# outputs are held high", 3 NC "No connection", 4 NC "No connection", 5 VBB (power) "LVDS reference voltage output", 6 IN (in) "LVDS input clock", 7 IN# (in) "LVDS complementary input clock", 8 VSS (power) "Ground", 9 VDD (power) "Power supply", 10 Q9# (out) "LVDS complementary output clocks", 11 Q9 (out) "LVDS output clocks", 12 Q8# (out) "LVDS complementary output clocks", 13 Q8 (out) "LVDS output clocks", 14 Q7# (out) "LVDS complementary output clocks", 15 Q7 (out) "LVDS output clocks", 16 VDD (power) "Power supply", 17 Q6# (out) "LVDS complementary output clocks", 18 Q6 (out) "LVDS output clocks", 19 Q5# (out) "LVDS complementary output clocks", 20 Q5 (out) "LVDS output clocks", 21 Q4# (out) "LVDS complementary output clocks", 22 Q4 (out) "LVDS output clocks", 23 Q3# (out) "LVDS complementary output clocks", 24 Q3 (out) "LVDS output clocks", 25 VDD (power) "Power supply", 26 Q2# (out) "LVDS complementary output clocks", 27 Q2 (out) "LVDS output clocks", 28 Q1# (out) "LVDS complementary output clocks", 29 Q1 (out) "LVDS output clocks", 30 Q0# (out) "LVDS complementary output clocks", 31 Q0 (out) "LVDS output clocks", 32 VDD (power) "Power supply"

## CY2DL1510AZIT
designator U?
1:10 Differential LVDS Fanout Buffer, 2.5 / 3.3 V, 10 Outputs, 1500 MHz Maximum, -40 to 85 degC, 32-Pin TQFP (AX32), Tape and Reel; Manufacturer: Cypress; PartNumber: CY2DL1510AZIT; Input Frequency Max. (MHz): 1500; Max. Operating Voltage (V): 3.465; Min. Operating Voltage (V): 2.375; No. of Outputs: 10; DatasheetVersion: Rev. *H; PackageVersion: Rev. *D, 07/2011; PackageReference: AX32; PackageDescription: 32-Pin Thin Plastic Quad Flatpack, Body 7 x 7 mm, Pitch 0.8 mm; Supplier 1: Digi-Key; Supplier Part Number 1: CY2DL1510AZIT-ND; Supplier 2: Mouser; Supplier Part Number 2: 727-CY2DL1510AZIT; Max. Operating Temp. (degreesC): 85; Min. Operating Temp. (degreesC): -40; Output Frequency Max. (MHz): 1500; Packing: Tape and Reel; RoHS: Pb-Free; Mounting Technology: Surface Mount; ComponentLink1Description: Manufacturer URL; ComponentLink1URL: http://www.cypress.com/; ComponentLink2Description: Datasheet; ComponentLink2URL: http://www.cypress.com/?docID=27540; ComponentLink3Description: Package Specification; ComponentLink3URL: http://www.cypress.com/?docID=39155
footprint CYP-AX32-51-85063_N (QFP, 32-Leads, Body 7x7mm, Pitch 0.8mm, IPC Medium Density)
footprint CYP-AX32-51-85063_L (QFP, 32-Leads, Body 7x7mm, Pitch 0.8mm, IPC High Density)
footprint CYP-AX32-51-85063_M (QFP, 32-Leads, Body 7x7mm, Pitch 0.8mm, IPC Low Density)
pins: 1 VDD (power) "Power supply", 2 CLK_EN (in) "Synchronous clock enable. Low-voltage complementary metal oxide semiconductor (LVCMOS)/low-voltage transistor-transistor-logic (LVTTL). When CLK_EN = Low, Q(0:9) outputs are held low and Q(0:9)# outputs are held high", 3 NC "No connection", 4 NC "No connection", 5 VBB (power) "LVDS reference voltage output", 6 IN (in) "LVDS input clock", 7 IN# (in) "LVDS complementary input clock", 8 VSS (power) "Ground", 9 VDD (power) "Power supply", 10 Q9# (out) "LVDS complementary output clocks", 11 Q9 (out) "LVDS output clocks", 12 Q8# (out) "LVDS complementary output clocks", 13 Q8 (out) "LVDS output clocks", 14 Q7# (out) "LVDS complementary output clocks", 15 Q7 (out) "LVDS output clocks", 16 VDD (power) "Power supply", 17 Q6# (out) "LVDS complementary output clocks", 18 Q6 (out) "LVDS output clocks", 19 Q5# (out) "LVDS complementary output clocks", 20 Q5 (out) "LVDS output clocks", 21 Q4# (out) "LVDS complementary output clocks", 22 Q4 (out) "LVDS output clocks", 23 Q3# (out) "LVDS complementary output clocks", 24 Q3 (out) "LVDS output clocks", 25 VDD (power) "Power supply", 26 Q2# (out) "LVDS complementary output clocks", 27 Q2 (out) "LVDS output clocks", 28 Q1# (out) "LVDS complementary output clocks", 29 Q1 (out) "LVDS output clocks", 30 Q0# (out) "LVDS complementary output clocks", 31 Q0 (out) "LVDS output clocks", 32 VDD (power) "Power supply"

## CY2DL15110AZC
designator U?
1:10 Differential LVDS Fanout Buffer with Selectable Clock Input, 2.5 / 3.3 V, 10 Outputs, 1500 MHz Maximum, 0 to 70 degC, 32-Pin TQFP (AX32), Tube; Manufacturer: Cypress; PartNumber: CY2DL15110AZC; Input Frequency Max. (MHz): 1500; Max. Operating Voltage (V): 3.465; Min. Operating Voltage (V): 2.375; No. of Outputs: 10; DatasheetVersion: Rev. *C; PackageVersion: Rev. *D, 07/2011; PackageReference: AX32; PackageDescription: 32-Pin Thin Plastic Quad Flatpack, Body 7 x 7 mm, Pitch 0.8 mm; Max. Operating Temp. (degreesC): 70; Min. Operating Temp. (degreesC): 0; Output Frequency Max. (MHz): 1500; Packing: Tube; RoHS: Pb-Free; Mounting Technology: Surface Mount; ComponentLink1Description: Manufacturer URL; ComponentLink1URL: http://www.cypress.com/; ComponentLink2Description: Datasheet; ComponentLink2URL: http://www.cypress.com/?docID=40977; ComponentLink3Description: Package Specification; ComponentLink3URL: http://www.cypress.com/?docID=39155
footprint CYP-AX32-51-85063_N (QFP, 32-Leads, Body 7x7mm, Pitch 0.8mm, IPC Medium Density)
footprint CYP-AX32-51-85063_L (QFP, 32-Leads, Body 7x7mm, Pitch 0.8mm, IPC High Density)
footprint CYP-AX32-51-85063_M (QFP, 32-Leads, Body 7x7mm, Pitch 0.8mm, IPC Low Density)
pins: 1 VDD (power) "Power supply", 2 CLK_EN (in) "Synchronous clock enable. Low-voltage complementary metal oxide semiconductor (LVCMOS)/low-voltage transistor-transistor-logic (LVTTL). When CLK_EN = Low, Q(0:9) outputs are held low and Q(0:9)# outputs are held high", 3 NC "No connection", 4 NC "No connection", 5 VBB (power) "LVDS reference voltage output", 6 IN (in) "LVDS input clock", 7 IN# (in) "LVDS complementary input clock", 8 VSS (power) "Ground", 9 VDD (power) "Power supply", 10 Q9# (out) "LVDS complementary output clocks", 11 Q9 (out) "LVDS output clocks", 12 Q8# (out) "LVDS complementary output clocks", 13 Q8 (out) "LVDS output clocks", 14 Q7# (out) "LVDS complementary output clocks", 15 Q7 (out) "LVDS output clocks", 16 VDD (power) "Power supply", 17 Q6# (out) "LVDS complementary output clocks", 18 Q6 (out) "LVDS output clocks", 19 Q5# (out) "LVDS complementary output clocks", 20 Q5 (out) "LVDS output clocks", 21 Q4# (out) "LVDS complementary output clocks", 22 Q4 (out) "LVDS output clocks", 23 Q3# (out) "LVDS complementary output clocks", 24 Q3 (out) "LVDS output clocks", 25 VDD (power) "Power supply", 26 Q2# (out) "LVDS complementary output clocks", 27 Q2 (out) "LVDS output clocks", 28 Q1# (out) "LVDS complementary output clocks", 29 Q1 (out) "LVDS output clocks", 30 Q0# (out) "LVDS complementary output clocks", 31 Q0 (out) "LVDS output clocks", 32 VDD (power) "Power supply"

## CY2DL15110AZCT
designator U?
1:10 Differential LVDS Fanout Buffer with Selectable Clock Input, 2.5 / 3.3 V, 10 Outputs, 1500 MHz Maximum, 0 to 70 degC, 32-Pin TQFP (AX32), Tape and Reel; Manufacturer: Cypress; PartNumber: CY2DL15110AZCT; Input Frequency Max. (MHz): 1500; Max. Operating Voltage (V): 3.465; Min. Operating Voltage (V): 2.375; No. of Outputs: 10; DatasheetVersion: Rev. *C; PackageVersion: Rev. *D, 07/2011; PackageReference: AX32; PackageDescription: 32-Pin Thin Plastic Quad Flatpack, Body 7 x 7 mm, Pitch 0.8 mm; Max. Operating Temp. (degreesC): 70; Min. Operating Temp. (degreesC): 0; Output Frequency Max. (MHz): 1500; Packing: Tape and Reel; RoHS: Pb-Free; Mounting Technology: Surface Mount; ComponentLink1Description: Manufacturer URL; ComponentLink1URL: http://www.cypress.com/; ComponentLink2Description: Datasheet; ComponentLink2URL: http://www.cypress.com/?docID=40977; ComponentLink3Description: Package Specification; ComponentLink3URL: http://www.cypress.com/?docID=39155
footprint CYP-AX32-51-85063_N (QFP, 32-Leads, Body 7x7mm, Pitch 0.8mm, IPC Medium Density)
footprint CYP-AX32-51-85063_L (QFP, 32-Leads, Body 7x7mm, Pitch 0.8mm, IPC High Density)
footprint CYP-AX32-51-85063_M (QFP, 32-Leads, Body 7x7mm, Pitch 0.8mm, IPC Low Density)
pins: 1 VDD (power) "Power supply", 2 CLK_EN (in) "Synchronous clock enable. Low-voltage complementary metal oxide semiconductor (LVCMOS)/low-voltage transistor-transistor-logic (LVTTL). When CLK_EN = Low, Q(0:9) outputs are held low and Q(0:9)# outputs are held high", 3 NC "No connection", 4 NC "No connection", 5 VBB (power) "LVDS reference voltage output", 6 IN (in) "LVDS input clock", 7 IN# (in) "LVDS complementary input clock", 8 VSS (power) "Ground", 9 VDD (power) "Power supply", 10 Q9# (out) "LVDS complementary output clocks", 11 Q9 (out) "LVDS output clocks", 12 Q8# (out) "LVDS complementary output clocks", 13 Q8 (out) "LVDS output clocks", 14 Q7# (out) "LVDS complementary output clocks", 15 Q7 (out) "LVDS output clocks", 16 VDD (power) "Power supply", 17 Q6# (out) "LVDS complementary output clocks", 18 Q6 (out) "LVDS output clocks", 19 Q5# (out) "LVDS complementary output clocks", 20 Q5 (out) "LVDS output clocks", 21 Q4# (out) "LVDS complementary output clocks", 22 Q4 (out) "LVDS output clocks", 23 Q3# (out) "LVDS complementary output clocks", 24 Q3 (out) "LVDS output clocks", 25 VDD (power) "Power supply", 26 Q2# (out) "LVDS complementary output clocks", 27 Q2 (out) "LVDS output clocks", 28 Q1# (out) "LVDS complementary output clocks", 29 Q1 (out) "LVDS output clocks", 30 Q0# (out) "LVDS complementary output clocks", 31 Q0 (out) "LVDS output clocks", 32 VDD (power) "Power supply"